# EAGLE library part PINHEAD_3X15 (library pinhead)
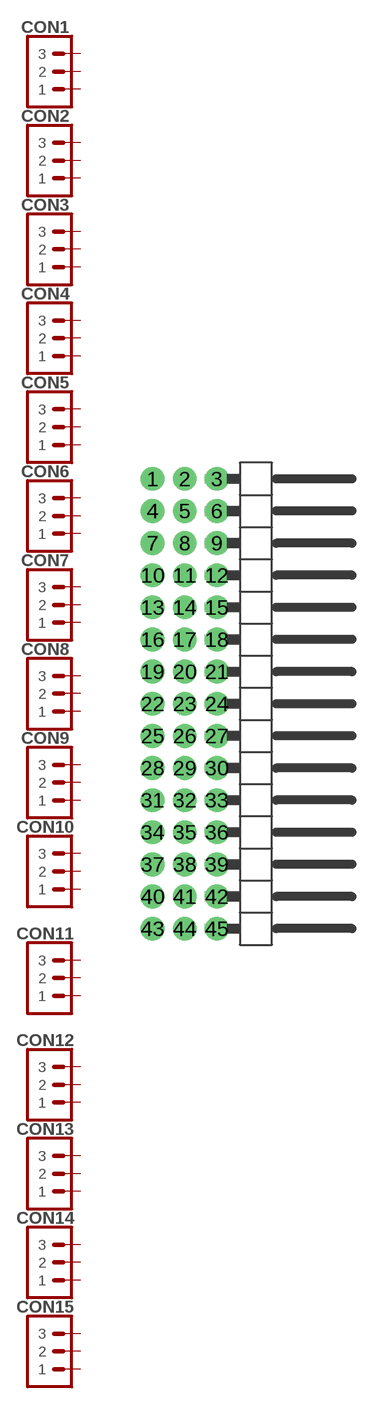
[diagram p0: symbol with the pads of 3X15-PTH-2.54; footprint 3X15-PTH-2.54]

Designator prefix CON; gates 1=M03 2=M03 3=M03 4=M03 5=M03 6=M03 7=M03 8=M03 9=M03 10=M03 11=M03 12=M03 13=M03 14=M03 15=M03

## PINHEAD_3X15  [3X15-PTH-2.54]
1  1:1  pas
2  1:2  pas
3  1:3  pas
4  2:1  pas
5  2:2  pas
6  2:3  pas
7  3:1  pas
8  3:2  pas
9  3:3  pas
10  4:1  pas
11  4:2  pas
12  4:3  pas
13  5:1  pas
14  5:2  pas
15  5:3  pas
16  6:1  pas
17  6:2  pas
18  6:3  pas
19  7:1  pas
20  7:2  pas
21  7:3  pas
22  8:1  pas
23  8:2  pas
24  8:3  pas
25  9:1  pas
26  9:2  pas
27  9:3  pas
28  10:1  pas
29  10:2  pas
30  10:3  pas
31  11:1  pas
32  11:2  pas
33  11:3  pas
34  12:1  pas
35  12:2  pas
36  12:3  pas
37  13:1  pas
38  13:2  pas
39  13:3  pas
40  14:1  pas
41  14:2  pas
42  14:3  pas
43  15:1  pas
44  15:2  pas
45  15:3  pas

## Footprint 3X15-PTH-2.54 (pad centres in mm)
drill 1.016 pad 1.88: 1 -2.54,17.78; 2 0,17.78; 3 2.54,17.78; 4 -2.54,15.24; 5 0,15.24; 6 2.54,15.24; 7 -2.54,12.7; 8 0,12.7; 9 2.54,12.7; 10 -2.54,10.16; 11 0,10.16; 12 2.54,10.16; 13 -2.54,7.62; 14 0,7.62; 15 2.54,7.62; 16 -2.54,5.08; 17 0,5.08; 18 2.54,5.08; 19 -2.54,2.54; 20 0,2.54; 21 2.54,2.54; 22 -2.54,0; 23 0,0; 24 2.54,0; 25 -2.54,-2.54; 26 0,-2.54; 27 2.54,-2.54; 28 -2.54,-5.08; 29 0,-5.08; 30 2.54,-5.08; 31 -2.54,-7.62; 32 0,-7.62; 33 2.54,-7.62; 34 -2.54,-10.16; 35 0,-10.16; 36 2.54,-10.16; 37 -2.54,-12.7; 38 0,-12.7; 39 2.54,-12.7; 40 -2.54,-15.24; 41 0,-15.24; 42 2.54,-15.24; 43 -2.54,-17.78; 44 0,-17.78; 45 2.54,-17.78